# EAGLE library part BME280 (library Femtosat)
Bosch BME280 – Combined Humidity and Pressure Sensor The BME280 is as combined digital humidity, pressure and temperature sensor based on proven sensing principles. The sensor module is housed in an extremely compact metal-lid LGA package with a footprint of only 2.5×2.5mm² with a height of 0.93mm. Its small dimensions and its low power consumption allow the implementation in battery driven devices such as handsets, GPS modules or watches. Datasheet <https://cdn.sparkfun.com/assets/learn_tutorials/4/1/9/BST-BME280_DS001-10.pdf> Adapted from the SparkFun Libraries
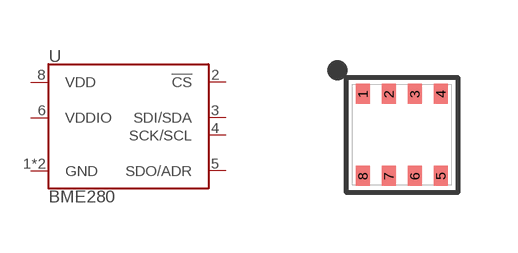
[diagram p2: symbol with the pads of LGA-8-2.5X2.5; footprint LGA-8-2.5X2.5]

Designator prefix U

## BME280 (DIGIKEY: 828-1063-1-ND; VALUE: BME280)  [LGA-8-2.5X2.5]
1  GND
2  !CS
3  SDI/SDA
4  SCK/SCL
5  SDO/ADR
6  VDDIO
7  GND
8  VDD

## Footprint LGA-8-2.5X2.5 (pad centres in mm)
LGA 8-Pin – 2.5mm x 2.5mm, 0.65mm Pitch Example Datasheet <https://cdn.sparkfun.com/assets/learn_tutorials/4/1/9/BST-BME280_DS001-10.pdf> Specifications: Pin Count: 8 Dimensions: 2.5 x 2.5 mm Pitch: 0.65 mm Used by: BME280
smd 0.35 x 0.5: 1 -0.975,1.025; 2 -0.325,1.025; 3 0.325,1.025; 4 0.975,1.025; 5 0.975,-1.025; 6 0.325,-1.025; 7 -0.325,-1.025; 8 -0.975,-1.025